# Altium footprint library SparkFun-Boards.PCBLIB: 59 footprints (part 3 of 4)
Each footprint in its own frame and in the unit in brackets; x right, y up, seen from the top. Pads: shape width x height; smd on the part's side, far side on the other; paste and mask are expansions set on the pad; w line width, h text height; cw(c..) or ccw(c..) is an arc to the next point about the centre after c.
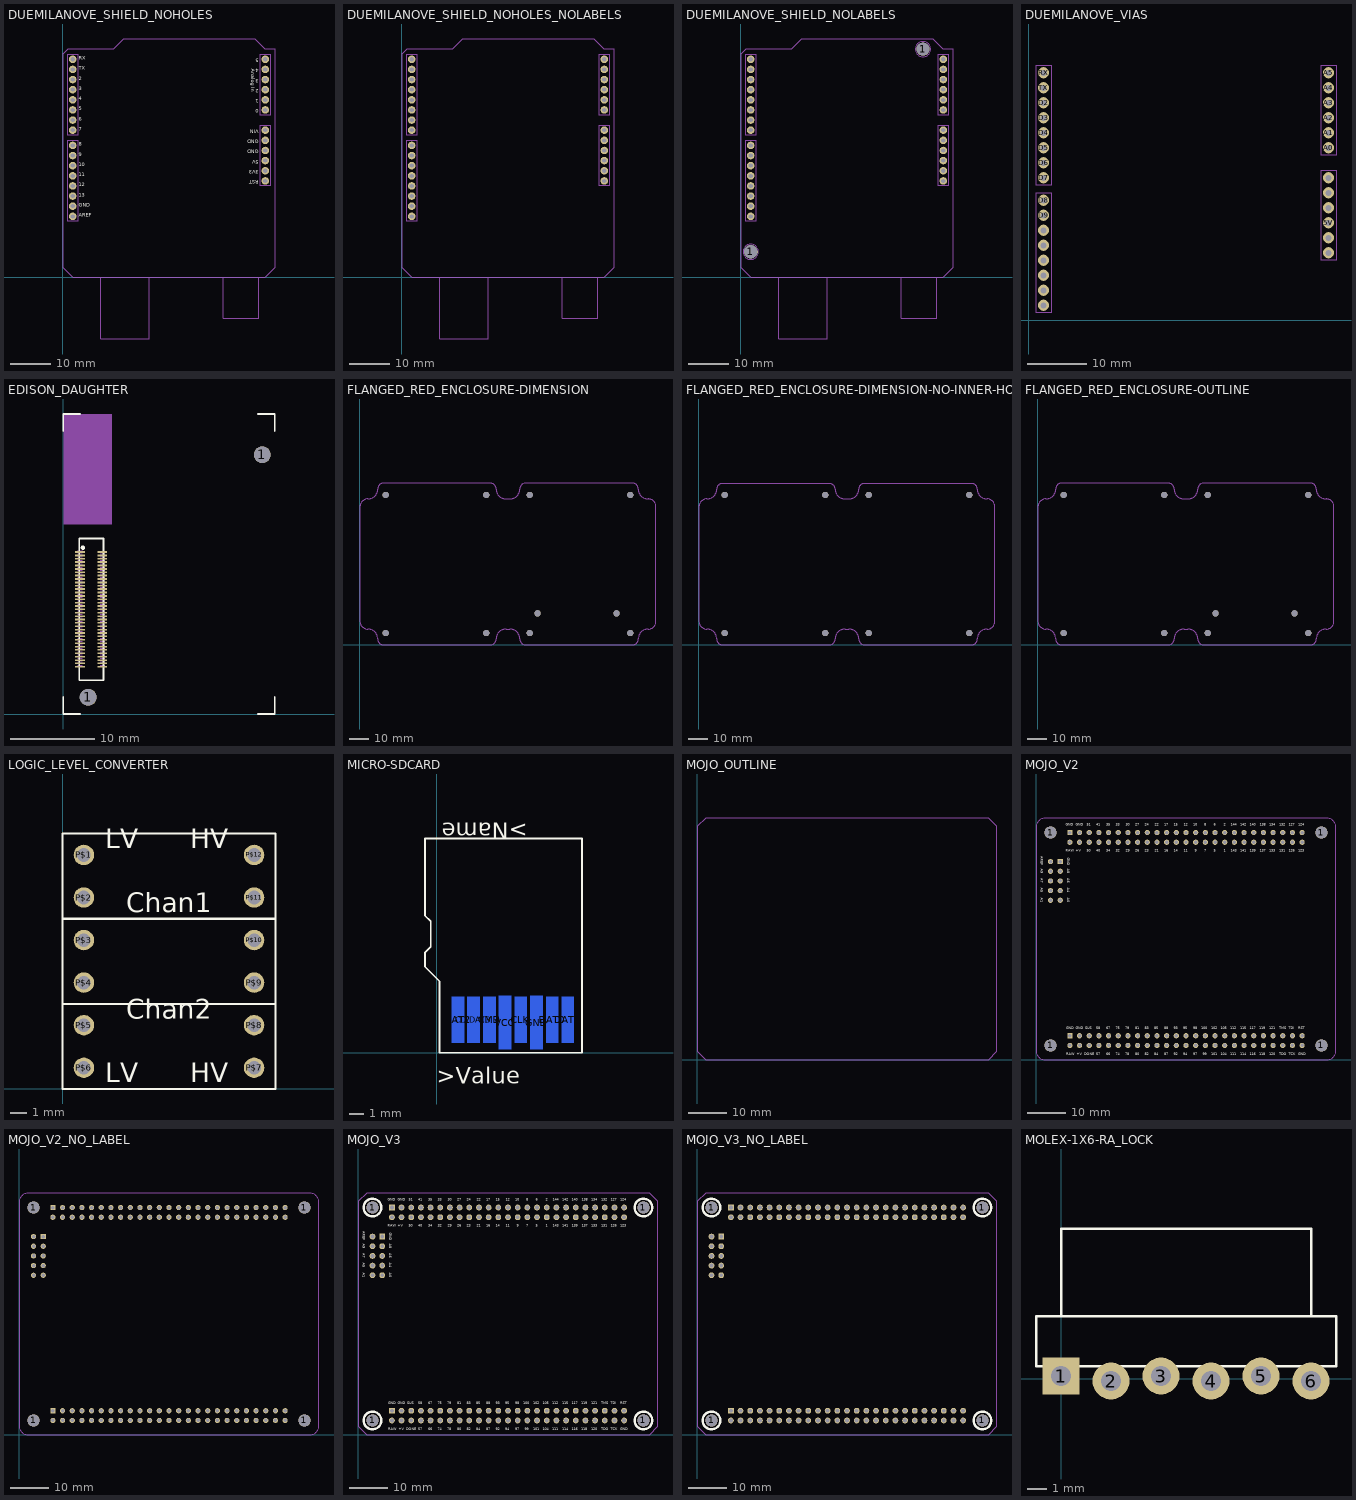
[diagram p2: the footprints below, top view; thin cyan lines are the x and y axes]

## DUEMILANOVE_SHIELD_NOHOLES [mil]
pads (28):
  round 74 hole 40: 3.3V(2000,1050) 5V(2000,1150) A0(2000,1650) A1(2000,1750) A2(2000,1850) A3(2000,1950) A4(2000,2050) A5(2000,2150) AREF(100,600) D2(100,1950) D3(100,1850) D4(100,1750) D5(100,1650) D6(100,1550) D7(100,1450) D8(100,1300) D9(100,1200) D10(100,1100) D11(100,1000) D12(100,900) D13(100,800) GND@0(2000,1250) GND@1(2000,1350) GND@2(100,700) RES(2000,950) RX(100,2150) TX(100,2050) VIN(2000,1450)
Top Overlay:
  text "GND" at 1935,1370 h62
  text "5V" at 1935,1170 h62
  text "RST" at 1935,970 h62
  text "VIN" at 1936,1470 h62
  text "3V3" at 1935,1070 h62
  text "0" at 1936,1670 h62
  text "1" at 1936,1770 h62
  text "2" at 1936,1870 h62
  text "3" at 1936,1970 h62
  text "4" at 1936,2070 h62
  text "5" at 1936,2170 h62
  text "Analog In" at 1846,2055 h62
  text "GND" at 160,680 h62
  text "13" at 160,780 h62
  text "12" at 160,880 h62
  text "11" at 160,980 h62
  text "AREF" at 160,580 h62
  text "10" at 160,1080 h62
  text "9" at 160,1180 h62
  text "8" at 160,1280 h62
  text "7" at 160,1430 h62
  text "6" at 160,1530 h62
  text "5" at 160,1630 h62
  text "4" at 160,1730 h62
  text "3" at 160,1830 h62
  text "2" at 160,1930 h62
  text "TX" at 160,2030 h62
  text "RX" at 160,2130 h62
  text "GND" at 1935,1270 h62
Mechanical 16:
  lines w5: 50,550 150,550 150,1350 50,1350 50,550 ; 50,1400 150,1400 150,2200 50,2200 50,1400 ; 1950,900 2050,900 2050,1500 1950,1500 1950,900 ; 1950,1600 2050,1600 2050,2200 1950,2200 1950,1600
  lines w10: 1583,-3.94 1583,-405.51 1938,-405.51 1938,-3.94 ; 375,0 100,0 0,100 0,2200 50,2250 500,2250 600,2350 1900,2350 2000,2250 2100,2250 2100,100 2000,0 855,0 ; 375,0 855,0 ; 375,0 375,-610.24 855,-610.24 855,0

## DUEMILANOVE_SHIELD_NOHOLES_NOLABELS [mil]
pads (28):
  round 74 hole 40: 3.3V(2000,1050) 5V(2000,1150) A0(2000,1650) A1(2000,1750) A2(2000,1850) A3(2000,1950) A4(2000,2050) A5(2000,2150) AREF(100,600) D2(100,1950) D3(100,1850) D4(100,1750) D5(100,1650) D6(100,1550) D7(100,1450) D8(100,1300) D9(100,1200) D10(100,1100) D11(100,1000) D12(100,900) D13(100,800) GND@0(2000,1250) GND@1(2000,1350) GND@2(100,700) RES(2000,950) RX(100,2150) TX(100,2050) VIN(2000,1450)
Mechanical 16:
  lines w5: 50,550 150,550 150,1350 50,1350 50,550 ; 50,1400 150,1400 150,2200 50,2200 50,1400 ; 1950,900 2050,900 2050,1500 1950,1500 1950,900 ; 1950,1600 2050,1600 2050,2200 1950,2200 1950,1600
  lines w10: 1583,-3.94 1583,-405.51 1938,-405.51 1938,-3.94 ; 375,0 100,0 0,100 0,2200 50,2250 500,2250 600,2350 1900,2350 2000,2250 2100,2250 2100,100 2000,0 855,0 ; 375,0 855,0 ; 375,0 375,-610.24 855,-610.24 855,0
  text "GND" at 1935,1370 h62
  text "5V" at 1935,1170 h62
  text "RST" at 1935,970 h62
  text "VIN" at 1936,1470 h62
  text "3V3" at 1935,1070 h62
  text "0" at 1936,1670 h62
  text "1" at 1936,1770 h62
  text "2" at 1936,1870 h62
  text "3" at 1936,1970 h62
  text "4" at 1936,2070 h62
  text "5" at 1936,2170 h62
  text "Analog In" at 1846,2055 h62
  text "GND" at 160,680 h62
  text "13" at 160,780 h62
  text "12" at 160,880 h62
  text "11" at 160,980 h62
  text "AREF" at 160,580 h62
  text "10" at 160,1080 h62
  text "9" at 160,1180 h62
  text "8" at 160,1280 h62
  text "7" at 160,1430 h62
  text "6" at 160,1530 h62
  text "5" at 160,1630 h62
  text "4" at 160,1730 h62
  text "3" at 160,1830 h62
  text "2" at 160,1930 h62
  text "TX" at 160,2030 h62
  text "RX" at 160,2130 h62
  text "GND" at 1935,1270 h62

## DUEMILANOVE_SHIELD_NOLABELS [mil]
pads (30):
  round 130 hole 130: 1(100,250) 1(1800,2250)
  round 74 hole 40: 3.3V(2000,1050) 5V(2000,1150) A0(2000,1650) A1(2000,1750) A2(2000,1850) A3(2000,1950) A4(2000,2050) A5(2000,2150) AREF(100,600) D2(100,1950) D3(100,1850) D4(100,1750) D5(100,1650) D6(100,1550) D7(100,1450) D8(100,1300) D9(100,1200) D10(100,1100) D11(100,1000) D12(100,900) D13(100,800) GND@0(2000,1250) GND@1(2000,1350) GND@2(100,700) RES(2000,950) RX(100,2150) TX(100,2050) VIN(2000,1450)
Mechanical 8:
  circle w5: c100,250 r75
  circle w5: c1800,2250 r75
Mechanical 9:
  circle w5: c100,250 r75
  circle w5: c1800,2250 r75
Mechanical 16:
  lines w5: 50,550 150,550 150,1350 50,1350 50,550 ; 50,1400 150,1400 150,2200 50,2200 50,1400 ; 1950,900 2050,900 2050,1500 1950,1500 1950,900 ; 1950,1600 2050,1600 2050,2200 1950,2200 1950,1600
  lines w10: 1583,-3.94 1583,-405.51 1938,-405.51 1938,-3.94 ; 375,0 100,0 0,100 0,2200 50,2250 500,2250 600,2350 1900,2350 2000,2250 2100,2250 2100,100 2000,0 855,0 ; 375,0 855,0 ; 375,0 375,-610.24 855,-610.24 855,0
  text "GND" at 1941,1270 h62
  text "GND" at 1941,1370 h62
  text "5V" at 1941,1170 h62
  text "RST" at 1941,970 h62
  text "VIN" at 1941,1470 h62
  text "3.3V" at 1941,1070 h62
  text "0" at 1941,1670 h62
  text "1" at 1941,1770 h62
  text "2" at 1941,1870 h62
  text "3" at 1941,1970 h62
  text "4" at 1941,2070 h62
  text "5" at 1941,2170 h62
  text "Analog In" at 1841,2055 h62
  text "GND" at 155,680 h62
  text "13" at 155,780 h62
  text "12" at 155,880 h62
  text "11" at 155,980 h62
  text "AREF" at 155,580 h62
  text "10" at 155,1080 h62
  text "9" at 155,1180 h62
  text "8" at 155,1280 h62
  text "7" at 155,1430 h62
  text "6" at 155,1530 h62
  text "5" at 155,1630 h62
  text "4" at 155,1730 h62
  text "3" at 155,1830 h62
  text "2" at 155,1930 h62
  text "TX" at 155,2030 h62
  text "RX" at 155,2130 h62

## DUEMILANOVE_VIAS [mil]
pads (28):
  round 74 hole 40: 3.3V(2000,550) 5V(2000,650) A0(2000,1150) A1(2000,1250) A2(2000,1350) A3(2000,1450) A4(2000,1550) A5(2000,1650) AREF(100,100) D2(100,1450) D3(100,1350) D4(100,1250) D5(100,1150) D6(100,1050) D7(100,950) D8(100,800) D9(100,700) D10(100,600) D11(100,500) D12(100,400) D13(100,300) GND@0(2000,750) GND@1(2000,850) GND@2(100,200) RES(2000,450) RX(100,1650) TX(100,1550) VIN(2000,950)
Mechanical 16:
  lines w5: 50,50 150,50 150,850 50,850 50,50 ; 50,900 150,900 150,1700 50,1700 50,900 ; 1950,400 2050,400 2050,1000 1950,1000 1950,400 ; 1950,1100 2050,1100 2050,1700 1950,1700 1950,1100
  text "GND" at 1958,770 h62
  text "GND" at 1958,870 h62
  text "+5V" at 1958,670 h62
  text "Reset" at 1958,470 h62
  text "Vin" at 1958,970 h62
  text "+3.3V" at 1958,570 h62
  text "0" at 1958,1170 h62
  text "1" at 1958,1270 h62
  text "2" at 1958,1370 h62
  text "3" at 1958,1470 h62
  text "4" at 1958,1570 h62
  text "5" at 1958,1670 h62
  text "Analog In" at 1858,1555 h62
  text "GND" at 150,180 h62
  text "13" at 150,280 h62
  text "12" at 150,380 h62
  text "11" at 150,480 h62
  text "Aref" at 150,80 h62
  text "10" at 150,580 h62
  text "9" at 150,680 h62
  text "8" at 150,780 h62
  text "7" at 150,930 h62
  text "6" at 150,1030 h62
  text "5" at 150,1130 h62
  text "4" at 150,1230 h62
  text "3" at 150,1330 h62
  text "2" at 150,1430 h62
  text "TX" at 150,1530 h62
  text "RX" at 150,1630 h62
  text "PWM" at 269,480 h62
  text "PWM" at 269,580 h62
  text "PWM" at 269,680 h62
  text "PWM" at 269,1030 h62
  text "PWM" at 269,1130 h62
  text "PWM" at 269,1330 h62

## EDISON_DAUGHTER [mil]
pads (72):
  rect 45x8 smd: 1(78,755) 2(182,755) 3(78,739) 4(182,739) 5(78,724) 6(182,724) 7(78,708) 8(182,708) 9(78,692) 10(182,692) 11(78,676) 12(182,676) 13(78,661) 14(182,661) 15(78,645) 16(182,645) 17(78,629) 18(182,629) 19(78,613) 20(182,613) 21(78,598) 22(182,598) 23(78,582) 24(182,582) 25(78,566) 26(182,566) 27(78,550) 28(182,550) 29(78,535) 30(182,535) 31(78,519) 32(182,519) 33(78,503) 34(182,503) 35(78,488) 36(182,488) 37(78,472) 38(182,472) 39(78,456) 40(182,456) 41(78,440) 42(182,440) 43(78,425) 44(182,425) 45(78,409) 46(182,409) 47(78,393) 48(182,393) 49(78,377) 50(182,377) 51(78,362) 52(182,362) 53(78,346) 54(182,346) 55(78,330) 56(182,330) 57(78,314) 58(182,314) 59(78,299) 60(182,299) 61(78,283) 62(182,283) 63(78,267) 64(182,267) 65(78,251) 66(182,251) 67(78,236) 68(182,236) 69(78,220) 70(182,220)
  round 79 hole 79: 1(116,78) 1(927,1208)
Top Overlay:
  circle w12: c91,775 r4
  lines w8: 0,79 0,0 79,0 ; 0,1319 0,1398 79,1398 ; 906,0 985,0 985,79 ; 906,1398 985,1398 985,1319 ; 74,157 74,818 187,818 187,157 74,157
Mechanical 2:
  text ">NAME" at 25,1378 h27.2
Mechanical 8:
  lines w1: 66,761 91,761
  lines w2: 68,228 89,228 ; 68,243 89,243 ; 68,259 89,259 ; 68,275 89,275 ; 68,291 89,291 ; 68,306 89,306 ; 68,322 89,322 ; 68,338 89,338 ; 68,354 89,354 ; 68,369 89,369 ; 68,385 89,385 ; 68,401 89,401 ; 68,417 89,417 ; 68,432 89,432 ; 68,448 89,448 ; 68,464 89,464 ; 68,480 89,480 ; 68,495 89,495 ; 68,511 89,511 ; 68,527 89,527 ; 68,543 89,543 ; 68,558 89,558 ; 68,574 89,574 ; 68,590 89,590 ; 68,606 89,606 ; 68,621 89,621 ; 68,637 89,637 ; 68,653 89,653 ; 68,669 89,669 ; 68,684 89,684 ; 68,700 89,700 ; 68,716 89,716 ; 68,732 89,732 ; 68,747 89,747 ; 173,228 193,228 ; 173,243 193,243 ; 173,259 193,259 ; 173,275 193,275 ; 173,291 193,291 ; 173,306 193,306 ; 173,322 193,322 ; 173,338 193,338 ; 173,354 193,354 ; 173,369 193,369 ; 173,385 193,385 ; 173,401 193,401 ; 173,417 193,417 ; 173,432 193,432 ; 173,448 193,448 ; 173,464 193,464 ; 173,480 193,480 ; 173,495 193,495 ; 173,511 193,511 ; 173,527 193,527 ; 173,543 193,543 ; 173,558 193,558 ; 173,574 193,574 ; 173,590 193,590 ; 173,606 193,606 ; 173,621 193,621 ; 173,637 193,637 ; 173,653 193,653 ; 173,669 193,669 ; 173,684 193,684 ; 173,700 193,700 ; 173,716 193,716 ; 173,732 193,732 ; 173,747 193,747
Mechanical 27:
  region: 228,1398 0,1398 0,882 228,882
Mechanical 28:
  region: 228,1398 0,1398 0,882 228,882

## FLANGED_RED_ENCLOSURE-DIMENSION [mil]
pads (10):
  round 125 hole 125: 1(512,237) 1(512,2993) 1(2520,237) 1(2520,2993) 1(3386,237) 1(3386,2993) 1(3544,630) 1(5119,630) 1(5394,237) 1(5394,2993)
Mechanical 1:
  lines w8: 0,473 0,2756 cw(c158,2756) 158,2914 ccw(c158,3111) 355,3111 cw(c473,3111) 473,3229 2599,3229 cw(c2599,3111) 2717,3111 ccw(c2914,3111) 2914,2914 2993,2914 ccw(c2992.5,3110.5) 3189,3111 cw(c3307.5,3110.5) 3308,3229 5434,3229 cw(c5434,3111) 5552,3111 ccw(c5749,3111) 5749,2914 cw(c5748.5,2756.5) 5906,2756 5906,473 cw(c5748.5,472.5) 5749,315 ccw(c5748.5,118.5) 5552,119 cw(c5433.5,118.5) 5434,0 3308,0 cw(c3308,119) 3189,119 ccw(c2993,119) 2993,315 2914,315 ccw(c2913.5,118.5) 2717,119 cw(c2598.5,118.5) 2599,0 473,0 cw(c473.5,118.5) 355,119 ccw(c158.5,118.5) 158,315 cw(c158,473) 0,473

## FLANGED_RED_ENCLOSURE-DIMENSION-NO-INNER-HOLES [mil]
pads (8):
  round 125 hole 125: 1(512,237) 1(512,2993) 1(2520,237) 1(2520,2993) 1(3386,237) 1(3386,2993) 1(5394,237) 1(5394,2993)
Mechanical 1:
  lines w8: 0,473 0,2756 cw(c158,2756) 158,2914 ccw(c158,3111) 355,3111 cw(c467,3108) 470,3220 2600,3220 cw(c2604,3107) 2717,3111 ccw(c2914,3111) 2914,2914 2993,2914 ccw(c2992.5,3110.5) 3189,3111 cw(c3299,3110) 3300,3220 5440,3220 cw(c5441.5,3109.5) 5552,3111 ccw(c5749,3111) 5749,2914 cw(c5752.5,2766.5) 5900,2770 5900,460 cw(c5752,463) 5749,315 ccw(c5748.5,118.5) 5552,119 cw(c5433.5,118.5) 5434,0 3308,0 cw(c3308,119) 3189,119 ccw(c2993,119) 2993,315 2914,315 ccw(c2913.5,118.5) 2717,119 cw(c2598.5,118.5) 2599,0 473,0 cw(c473.5,118.5) 355,119 ccw(c158.5,118.5) 158,315 cw(c158,473) 0,473

## FLANGED_RED_ENCLOSURE-OUTLINE [mil]
pads (10):
  round 125 hole 125: 1(512,237) 1(512,2993) 1(2520,237) 1(2520,2993) 1(3386,237) 1(3386,2993) 1(3544,630) 1(5119,630) 1(5394,237) 1(5394,2993)
Mechanical 14:
  lines w8: 0,473 0,2756 cw(c158,2756) 158,2914 ccw(c158,3111) 355,3111 cw(c473,3111) 473,3229 2599,3229 cw(c2599,3111) 2717,3111 ccw(c2914,3111) 2914,2914 2993,2914 ccw(c2992.5,3110.5) 3189,3111 cw(c3307.5,3110.5) 3308,3229 5434,3229 cw(c5434,3111) 5552,3111 ccw(c5749,3111) 5749,2914 cw(c5748.5,2756.5) 5906,2756 5906,473 cw(c5748.5,472.5) 5749,315 ccw(c5748.5,118.5) 5552,119 cw(c5433.5,118.5) 5434,0 3308,0 cw(c3308,119) 3189,119 ccw(c2993,119) 2993,315 2914,315 ccw(c2913.5,118.5) 2717,119 cw(c2598.5,118.5) 2599,0 473,0 cw(c473.5,118.5) 355,119 ccw(c158.5,118.5) 158,315 cw(c158,473) 0,473

## LOGIC_LEVEL_CONVERTER [mil]
pads (12):
  round 48 hole 32: P$1(50,550) P$2(50,450) P$3(50,350) P$4(50,250) P$5(50,150) P$6(50,50) P$7(450,50) P$8(450,150) P$9(450,250) P$10(450,350) P$11(450,450) P$12(450,550)
Top Overlay:
  lines w5: 0,200 0,0 500,0 500,200 ; 0,200 0,400 ; 0,200 500,200 ; 0,400 0,600 500,600 500,400 ; 0,400 500,400 ; 500,200 500,400
  text "Chan1" at 150,400 h77.5
  text "Chan2" at 150,150 h77.5
  text "LV" at 100,550 h77.5
  text "LV" at 100,0 h77.5
  text "HV" at 300,550 h77.5
  text "HV" at 300,0 h77.5

## MICRO-SDCARD [mil]
pads (8):
  rect 34x128 smd far side: CD/DAT3(101,91) CLK(231,91) CMD(145,91) DAT0(318,91) DAT1(361,91) DAT2(58,91)
  rect 34x148 smd far side: GND(275,83) VCC(188,83)
Top Overlay:
  lines w5: -33.07,237 -33.07,276 -17.32,292 -17.32,363 -33.07,378 -33.07,591 400,591 400,0 7,0 7,197 -33.07,237
  text ">Name" at 250,650 h77.5
  text ">Value" at 0,-100 h77.5

## MOJO_OUTLINE [mil]
Mechanical 1:
  lines w8: 0,88 0,2413 88,2500 3013,2500 3100,2413 3100,88 3013,0 88,0 0,88

## MOJO_V2 [mil]
pads (114):
  round 126 hole 126: 1(150,150) 1(150,2350) 1(2950,150) 1(2950,2350)
  round 54 hole 36: 1(1950,2250) 2(1950,2350) 5(1850,2250) 6(1850,2350) 7(1750,2250) 8(1750,2350) 9(1650,2250) 10(1650,2350) 11(1550,2250) 12(1550,2350) 14(1450,2250) 15(1450,2350) 16(1350,2250) 17(1350,2350) 21(1250,2250) 22(1250,2350) 23(1150,2250) 24(1150,2350) 26(1050,2250) 27(1050,2350) 29(950,2250) 30(950,2350) 32(850,2250) 33(850,2350) 34(750,2250) 35(750,2350) 40(650,2250) 41(650,2350) 50(550,2250) 51(550,2350) 57(650,150) 58(650,250) 66(750,150) 67(750,250) 74(850,150) 75(850,250) 78(950,150) 79(950,250) 80(1050,150) 81(1050,250) 82(1150,150) 83(1150,250) 84(1250,150) 85(1250,250) 87(1350,150) 88(1350,250) 92(1450,150) 93(1450,250) 94(1550,150) 95(1550,250) 97(1650,150) 98(1650,250) 99(1750,150) 100(1750,250) 101(1850,150) 102(1850,250) 104(1950,150) 105(1950,250) 111(2050,150) 112(2050,250) 114(2150,150) 115(2150,250) 116(2250,150) 117(2250,250) 118(2350,150) 119(2350,250) 120(2450,150) 121(2450,250) 123(2750,2250) 124(2750,2350) 126(2650,2250) 127(2650,2350) 131(2550,2250) 132(2550,2350) 133(2450,2250) 134(2450,2350) 137(2350,2250) 138(2350,2350) 139(2250,2250) 140(2250,2350) 141(2150,2250) 142(2150,2350) 143(2050,2250) 144(2050,2350) A0(250,1650) A1(150,1650) A4(250,1750) A5(150,1750) A6(250,1850) A7(150,1850) A8(250,1950) A9(150,1950) AREF(150,2050) DONE(550,150) GND@2(450,2350) GND@4(450,250) GND@6(2750,150) RAW@1(350,2250) RAW@2(350,150) RST(2750,250) SUS(550,250) TCK(2650,150) TDI(2650,250) TDO(2550,150) TMS(2550,250) V@1(450,2250) V@2(450,150)
  rect 54x54 hole 36: GND@1(350,2350) GND@3(350,250) GND@5(250,2050)
Top Overlay:
  text "+V" at 413,2150 h27.2
  text "GND" at 410,2418 h27.2
  text "51" at 525,2418 h27.2
  text "50" at 525,2150 h27.2
  text "41" at 625,2418 h27.2
  text "40" at 625,2150 h27.2
  text "35" at 725,2418 h27.2
  text "34" at 725,2150 h27.2
  text "33" at 825,2418 h27.2
  text "32" at 825,2150 h27.2
  text "30" at 925,2418 h27.2
  text "29" at 925,2150 h27.2
  text "27" at 1025,2418 h27.2
  text "26" at 1025,2150 h27.2
  text "24" at 1125,2418 h27.2
  text "23" at 1125,2150 h27.2
  text "22" at 1225,2418 h27.2
  text "21" at 1225,2150 h27.2
  text "17" at 1325,2418 h27.2
  text "16" at 1325,2150 h27.2
  text "15" at 1425,2418 h27.2
  text "14" at 1425,2150 h27.2
  text "12" at 1525,2418 h27.2
  text "11" at 1525,2150 h27.2
  text "10" at 1625,2418 h27.2
  text "9" at 1638,2150 h27.2
  text "8" at 1738,2418 h27.2
  text "7" at 1738,2150 h27.2
  text "6" at 1838,2418 h27.2
  text "5" at 1838,2150 h27.2
  text "2" at 1938,2418 h27.2
  text "1" at 1938,2150 h27.2
  text "144" at 2011,2418 h27.2
  text "143" at 2011,2150 h27.2
  text "142" at 2111,2418 h27.2
  text "141" at 2111,2150 h27.2
  text "140" at 2211,2418 h27.2
  text "139" at 2211,2150 h27.2
  text "138" at 2311,2418 h27.2
  text "137" at 2311,2150 h27.2
  text "GND" at 309,2418 h27.2
  text "RAW" at 309,2150 h27.2
  text "134" at 2412,2418 h27.2
  text "133" at 2412,2150 h27.2
  text "132" at 2512,2418 h27.2
  text "131" at 2512,2150 h27.2
  text "127" at 2612,2418 h27.2
  text "126" at 2612,2150 h27.2
  text "124" at 2712,2418 h27.2
  text "123" at 2712,2150 h27.2
  text "+V" at 423,50 h27.2
  text "GND" at 409,318 h27.2
  text "58" at 624,318 h27.2
  text "57" at 624,50 h27.2
  text "67" at 724,318 h27.2
  text "66" at 724,50 h27.2
  text "75" at 824,318 h27.2
  text "74" at 824,50 h27.2
  text "79" at 924,318 h27.2
  text "78" at 924,50 h27.2
  text "81" at 1024,318 h27.2
  text "80" at 1024,50 h27.2
  text "83" at 1124,318 h27.2
  text "82" at 1124,50 h27.2
  text "85" at 1224,318 h27.2
  text "84" at 1224,50 h27.2
  text "88" at 1324,318 h27.2
  text "87" at 1324,50 h27.2
  text "93" at 1424,318 h27.2
  text "92" at 1424,50 h27.2
  text "95" at 1524,318 h27.2
  text "94" at 1524,50 h27.2
  text "98" at 1624,318 h27.2
  text "97" at 1624,50 h27.2
  text "100" at 1709,318 h27.2
  text "99" at 1721,50 h27.2
  text "102" at 1809,318 h27.2
  text "101" at 1809,50 h27.2
  text "105" at 1909,318 h27.2
  text "104" at 1909,50 h27.2
  text "112" at 2009,318 h27.2
  text "111" at 2009,50 h27.2
  text "115" at 2109,318 h27.2
  text "114" at 2109,50 h27.2
  text "117" at 2209,318 h27.2
  text "116" at 2209,50 h27.2
  text "121" at 2409,318 h27.2
  text "120" at 2409,50 h27.2
  text "119" at 2309,318 h27.2
  text "118" at 2309,50 h27.2
  text "RAW" at 310,50 h27.2
  text "TMS" at 2512,318 h27.2
  text "TDO" at 2512,50 h27.2
  text "RST" at 2712,318 h27.2
  text "GND" at 2712,50 h27.2
  text "TDI" at 2612,318 h27.2
  text "TCK" at 2612,50 h27.2
  text "SUS" at 511,318 h27.2
  text "DONE" at 496,50 h27.2
  text "A0" at 322,1674 h27.2
  text "A9" at 48,1974 h27.2
  text "A1" at 48,1674 h27.2
  text "A4" at 322,1780 h27.2
  text "A5" at 48,1780 h27.2
  text "A6" at 322,1877 h27.2
  text "A7" at 48,1877 h27.2
  text "A8" at 322,1974 h27.2
  text "GND" at 322,2091 h27.2
  text "AREF" at 48,2105 h27.2
  text "GND" at 310,318 h27.2
Mechanical 16:
  lines w8: 0,100 0,2400 cw(c100,2400) 100,2500 3000,2500 cw(c3000,2400) 3100,2400 3100,100 cw(c3000,100) 3000,0 100,0 cw(c100,100) 0,100

## MOJO_V2_NO_LABEL [mil]
pads (114):
  round 126 hole 126: 1(150,150) 1(150,2350) 1(2950,150) 1(2950,2350)
  round 54 hole 36: 1(1950,2250) 2(1950,2350) 5(1850,2250) 6(1850,2350) 7(1750,2250) 8(1750,2350) 9(1650,2250) 10(1650,2350) 11(1550,2250) 12(1550,2350) 14(1450,2250) 15(1450,2350) 16(1350,2250) 17(1350,2350) 21(1250,2250) 22(1250,2350) 23(1150,2250) 24(1150,2350) 26(1050,2250) 27(1050,2350) 29(950,2250) 30(950,2350) 32(850,2250) 33(850,2350) 34(750,2250) 35(750,2350) 40(650,2250) 41(650,2350) 50(550,2250) 51(550,2350) 57(650,150) 58(650,250) 66(750,150) 67(750,250) 74(850,150) 75(850,250) 78(950,150) 79(950,250) 80(1050,150) 81(1050,250) 82(1150,150) 83(1150,250) 84(1250,150) 85(1250,250) 87(1350,150) 88(1350,250) 92(1450,150) 93(1450,250) 94(1550,150) 95(1550,250) 97(1650,150) 98(1650,250) 99(1750,150) 100(1750,250) 101(1850,150) 102(1850,250) 104(1950,150) 105(1950,250) 111(2050,150) 112(2050,250) 114(2150,150) 115(2150,250) 116(2250,150) 117(2250,250) 118(2350,150) 119(2350,250) 120(2450,150) 121(2450,250) 123(2750,2250) 124(2750,2350) 126(2650,2250) 127(2650,2350) 131(2550,2250) 132(2550,2350) 133(2450,2250) 134(2450,2350) 137(2350,2250) 138(2350,2350) 139(2250,2250) 140(2250,2350) 141(2150,2250) 142(2150,2350) 143(2050,2250) 144(2050,2350) A0(250,1650) A1(150,1650) A4(250,1750) A5(150,1750) A6(250,1850) A7(150,1850) A8(250,1950) A9(150,1950) AREF(150,2050) DONE(550,150) GND@2(450,2350) GND@4(450,250) GND@6(2750,150) RAW@1(350,2250) RAW@2(350,150) RST(2750,250) SUS(550,250) TCK(2650,150) TDI(2650,250) TDO(2550,150) TMS(2550,250) V@1(450,2250) V@2(450,150)
  rect 54x54 hole 36: GND@1(350,2350) GND@3(350,250) GND@5(250,2050)
Mechanical 16:
  lines w8: 0,100 0,2400 cw(c100,2400) 100,2500 3000,2500 cw(c3000,2400) 3100,2400 3100,100 cw(c3000,100) 3000,0 100,0 cw(c100,100) 0,100
  text "+V" at 413,2150 h27.2
  text "GND" at 410,2418 h27.2
  text "51" at 525,2418 h27.2
  text "50" at 525,2150 h27.2
  text "41" at 625,2418 h27.2
  text "40" at 625,2150 h27.2
  text "35" at 725,2418 h27.2
  text "34" at 725,2150 h27.2
  text "33" at 825,2418 h27.2
  text "32" at 825,2150 h27.2
  text "30" at 925,2418 h27.2
  text "29" at 925,2150 h27.2
  text "27" at 1025,2418 h27.2
  text "26" at 1025,2150 h27.2
  text "24" at 1125,2418 h27.2
  text "23" at 1125,2150 h27.2
  text "22" at 1225,2418 h27.2
  text "21" at 1225,2150 h27.2
  text "17" at 1325,2418 h27.2
  text "16" at 1325,2150 h27.2
  text "15" at 1425,2418 h27.2
  text "14" at 1425,2150 h27.2
  text "12" at 1525,2418 h27.2
  text "11" at 1525,2150 h27.2
  text "10" at 1625,2418 h27.2
  text "9" at 1638,2150 h27.2
  text "8" at 1738,2418 h27.2
  text "7" at 1738,2150 h27.2
  text "6" at 1838,2418 h27.2
  text "5" at 1838,2150 h27.2
  text "2" at 1938,2418 h27.2
  text "1" at 1938,2150 h27.2
  text "144" at 2011,2418 h27.2
  text "143" at 2011,2150 h27.2
  text "142" at 2111,2418 h27.2
  text "141" at 2111,2150 h27.2
  text "140" at 2211,2418 h27.2
  text "139" at 2211,2150 h27.2
  text "138" at 2311,2418 h27.2
  text "137" at 2311,2150 h27.2
  text "GND" at 309,2418 h27.2
  text "RAW" at 309,2150 h27.2
  text "134" at 2412,2418 h27.2
  text "133" at 2412,2150 h27.2
  text "132" at 2512,2418 h27.2
  text "131" at 2512,2150 h27.2
  text "127" at 2612,2418 h27.2
  text "126" at 2612,2150 h27.2
  text "124" at 2712,2418 h27.2
  text "123" at 2712,2150 h27.2
  text "+V" at 423,50 h27.2
  text "GND" at 409,318 h27.2
  text "58" at 624,318 h27.2
  text "57" at 624,50 h27.2
  text "67" at 724,318 h27.2
  text "66" at 724,50 h27.2
  text "75" at 824,318 h27.2
  text "74" at 824,50 h27.2
  text "79" at 924,318 h27.2
  text "78" at 924,50 h27.2
  text "81" at 1024,318 h27.2
  text "80" at 1024,50 h27.2
  text "83" at 1124,318 h27.2
  text "82" at 1124,50 h27.2
  text "85" at 1224,318 h27.2
  text "84" at 1224,50 h27.2
  text "88" at 1324,318 h27.2
  text "87" at 1324,50 h27.2
  text "93" at 1424,318 h27.2
  text "92" at 1424,50 h27.2
  text "95" at 1524,318 h27.2
  text "94" at 1524,50 h27.2
  text "98" at 1624,318 h27.2
  text "97" at 1624,50 h27.2
  text "100" at 1709,318 h27.2
  text "99" at 1721,50 h27.2
  text "102" at 1809,318 h27.2
  text "101" at 1809,50 h27.2
  text "105" at 1909,318 h27.2
  text "104" at 1909,50 h27.2
  text "112" at 2009,318 h27.2
  text "111" at 2009,50 h27.2
  text "115" at 2109,318 h27.2
  text "114" at 2109,50 h27.2
  text "117" at 2209,318 h27.2
  text "116" at 2209,50 h27.2
  text "121" at 2409,318 h27.2
  text "120" at 2409,50 h27.2
  text "119" at 2309,318 h27.2
  text "118" at 2309,50 h27.2
  text "RAW" at 310,50 h27.2
  text "TMS" at 2512,318 h27.2
  text "TDO" at 2512,50 h27.2
  text "RST" at 2712,318 h27.2
  text "GND" at 2712,50 h27.2
  text "TDI" at 2612,318 h27.2
  text "TCK" at 2612,50 h27.2
  text "SUS" at 511,318 h27.2
  text "DONE" at 496,50 h27.2
  text "A0" at 322,1674 h27.2
  text "A9" at 48,1974 h27.2
  text "A1" at 48,1674 h27.2
  text "A4" at 322,1780 h27.2
  text "A5" at 48,1780 h27.2
  text "A6" at 322,1877 h27.2
  text "A7" at 48,1877 h27.2
  text "A8" at 322,1974 h27.2
  text "GND" at 322,2091 h27.2
  text "AREF" at 48,2105 h27.2
  text "GND" at 310,318 h27.2

## MOJO_V3 [mil]
pads (114):
  round 126 hole 126: 1(150,150) 1(150,2350) 1(2950,150) 1(2950,2350)
  round 60 hole 40: 1(1950,2250) 2(1950,2350) 5(1850,2250) 6(1850,2350) 7(1750,2250) 8(1750,2350) 9(1650,2250) 10(1650,2350) 11(1550,2250) 12(1550,2350) 14(1450,2250) 15(1450,2350) 16(1350,2250) 17(1350,2350) 21(1250,2250) 22(1250,2350) 23(1150,2250) 24(1150,2350) 26(1050,2250) 27(1050,2350) 29(950,2250) 30(950,2350) 32(850,2250) 33(850,2350) 34(750,2250) 35(750,2350) 40(650,2250) 41(650,2350) 50(550,2250) 51(550,2350) 57(650,150) 58(650,250) 66(750,150) 67(750,250) 74(850,150) 75(850,250) 78(950,150) 79(950,250) 80(1050,150) 81(1050,250) 82(1150,150) 83(1150,250) 84(1250,150) 85(1250,250) 87(1350,150) 88(1350,250) 92(1450,150) 93(1450,250) 94(1550,150) 95(1550,250) 97(1650,150) 98(1650,250) 99(1750,150) 100(1750,250) 101(1850,150) 102(1850,250) 104(1950,150) 105(1950,250) 111(2050,150) 112(2050,250) 114(2150,150) 115(2150,250) 116(2250,150) 117(2250,250) 118(2350,150) 119(2350,250) 120(2450,150) 121(2450,250) 123(2750,2250) 124(2750,2350) 126(2650,2250) 127(2650,2350) 131(2550,2250) 132(2550,2350) 133(2450,2250) 134(2450,2350) 137(2350,2250) 138(2350,2350) 139(2250,2250) 140(2250,2350) 141(2150,2250) 142(2150,2350) 143(2050,2250) 144(2050,2350) A0(250,1650) A1(150,1650) A4(250,1750) A5(150,1750) A6(250,1850) A7(150,1850) A8(250,1950) A9(150,1950) AREF(150,2050) DONE(550,150) GND@2(450,2350) GND@4(450,250) GND@6(2750,150) RAW@1(350,2250) RAW@2(350,150) RST(2750,250) SUS(550,250) TCK(2650,150) TDI(2650,250) TDO(2550,150) TMS(2550,250) V@1(450,2250) V@2(450,150)
  rect 60x60 hole 40: GND@1(350,2350) GND@3(350,250) GND@5(250,2050)
Top Overlay:
  circle w24: c150,2350 r91
  circle w24: c150,150 r91
  circle w24: c2950,2350 r91
  circle w24: c2950,150 r91
  text "+V" at 413,2150 h27.2
  text "GND" at 410,2418 h27.2
  text "51" at 525,2418 h27.2
  text "50" at 525,2150 h27.2
  text "41" at 625,2418 h27.2
  text "40" at 625,2150 h27.2
  text "35" at 725,2418 h27.2
  text "34" at 725,2150 h27.2
  text "33" at 825,2418 h27.2
  text "32" at 825,2150 h27.2
  text "30" at 925,2418 h27.2
  text "29" at 925,2150 h27.2
  text "27" at 1025,2418 h27.2
  text "26" at 1025,2150 h27.2
  text "24" at 1125,2418 h27.2
  text "23" at 1125,2150 h27.2
  text "22" at 1225,2418 h27.2
  text "21" at 1225,2150 h27.2
  text "17" at 1325,2418 h27.2
  text "16" at 1325,2150 h27.2
  text "15" at 1425,2418 h27.2
  text "14" at 1425,2150 h27.2
  text "12" at 1525,2418 h27.2
  text "11" at 1525,2150 h27.2
  text "10" at 1625,2418 h27.2
  text "9" at 1638,2150 h27.2
  text "8" at 1738,2418 h27.2
  text "7" at 1738,2150 h27.2
  text "6" at 1838,2418 h27.2
  text "5" at 1838,2150 h27.2
  text "2" at 1938,2418 h27.2
  text "1" at 1938,2150 h27.2
  text "144" at 2011,2418 h27.2
  text "143" at 2011,2150 h27.2
  text "142" at 2111,2418 h27.2
  text "141" at 2111,2150 h27.2
  text "140" at 2211,2418 h27.2
  text "139" at 2211,2150 h27.2
  text "138" at 2311,2418 h27.2
  text "137" at 2311,2150 h27.2
  text "GND" at 309,2418 h27.2
  text "RAW" at 309,2150 h27.2
  text "134" at 2412,2418 h27.2
  text "133" at 2412,2150 h27.2
  text "132" at 2512,2418 h27.2
  text "131" at 2512,2150 h27.2
  text "127" at 2612,2418 h27.2
  text "126" at 2612,2150 h27.2
  text "124" at 2712,2418 h27.2
  text "123" at 2712,2150 h27.2
  text "+V" at 423,50 h27.2
  text "GND" at 409,318 h27.2
  text "58" at 624,318 h27.2
  text "57" at 624,50 h27.2
  text "67" at 724,318 h27.2
  text "66" at 724,50 h27.2
  text "75" at 824,318 h27.2
  text "74" at 824,50 h27.2
  text "79" at 924,318 h27.2
  text "78" at 924,50 h27.2
  text "81" at 1024,318 h27.2
  text "80" at 1024,50 h27.2
  text "83" at 1124,318 h27.2
  text "82" at 1124,50 h27.2
  text "85" at 1224,318 h27.2
  text "84" at 1224,50 h27.2
  text "88" at 1324,318 h27.2
  text "87" at 1324,50 h27.2
  text "93" at 1424,318 h27.2
  text "92" at 1424,50 h27.2
  text "95" at 1524,318 h27.2
  text "94" at 1524,50 h27.2
  text "98" at 1624,318 h27.2
  text "97" at 1624,50 h27.2
  text "100" at 1709,318 h27.2
  text "99" at 1721,50 h27.2
  text "102" at 1809,318 h27.2
  text "101" at 1809,50 h27.2
  text "105" at 1909,318 h27.2
  text "104" at 1909,50 h27.2
  text "112" at 2009,318 h27.2
  text "111" at 2009,50 h27.2
  text "115" at 2109,318 h27.2
  text "114" at 2109,50 h27.2
  text "117" at 2209,318 h27.2
  text "116" at 2209,50 h27.2
  text "121" at 2409,318 h27.2
  text "120" at 2409,50 h27.2
  text "119" at 2309,318 h27.2
  text "118" at 2309,50 h27.2
  text "RAW" at 310,50 h27.2
  text "TMS" at 2512,318 h27.2
  text "TDO" at 2512,50 h27.2
  text "RST" at 2712,318 h27.2
  text "GND" at 2712,50 h27.2
  text "TDI" at 2612,318 h27.2
  text "TCK" at 2612,50 h27.2
  text "SUS" at 511,318 h27.2
  text "DONE" at 496,50 h27.2
  text "A0" at 322,1674 h27.2
  text "A9" at 48,1974 h27.2
  text "A1" at 48,1674 h27.2
  text "A4" at 322,1780 h27.2
  text "A5" at 48,1780 h27.2
  text "A6" at 322,1877 h27.2
  text "A7" at 48,1877 h27.2
  text "A8" at 322,1974 h27.2
  text "GND" at 322,2091 h27.2
  text "AREF" at 48,2105 h27.2
  text "GND" at 310,318 h27.2
Bottom Overlay:
  circle w24: c150,2350 r91
  circle w24: c150,150 r91
  circle w24: c2950,2350 r91
  circle w24: c2950,150 r91
Mechanical 16:
  lines w8: 0,88 0,2413 88,2500 3013,2500 3100,2413 3100,88 3013,0 88,0 0,88

## MOJO_V3_NO_LABEL [mil]
pads (114):
  round 126 hole 126: 1(150,150) 1(150,2350) 1(2950,150) 1(2950,2350)
  round 60 hole 40: 1(1950,2250) 2(1950,2350) 5(1850,2250) 6(1850,2350) 7(1750,2250) 8(1750,2350) 9(1650,2250) 10(1650,2350) 11(1550,2250) 12(1550,2350) 14(1450,2250) 15(1450,2350) 16(1350,2250) 17(1350,2350) 21(1250,2250) 22(1250,2350) 23(1150,2250) 24(1150,2350) 26(1050,2250) 27(1050,2350) 29(950,2250) 30(950,2350) 32(850,2250) 33(850,2350) 34(750,2250) 35(750,2350) 40(650,2250) 41(650,2350) 50(550,2250) 51(550,2350) 57(650,150) 58(650,250) 66(750,150) 67(750,250) 74(850,150) 75(850,250) 78(950,150) 79(950,250) 80(1050,150) 81(1050,250) 82(1150,150) 83(1150,250) 84(1250,150) 85(1250,250) 87(1350,150) 88(1350,250) 92(1450,150) 93(1450,250) 94(1550,150) 95(1550,250) 97(1650,150) 98(1650,250) 99(1750,150) 100(1750,250) 101(1850,150) 102(1850,250) 104(1950,150) 105(1950,250) 111(2050,150) 112(2050,250) 114(2150,150) 115(2150,250) 116(2250,150) 117(2250,250) 118(2350,150) 119(2350,250) 120(2450,150) 121(2450,250) 123(2750,2250) 124(2750,2350) 126(2650,2250) 127(2650,2350) 131(2550,2250) 132(2550,2350) 133(2450,2250) 134(2450,2350) 137(2350,2250) 138(2350,2350) 139(2250,2250) 140(2250,2350) 141(2150,2250) 142(2150,2350) 143(2050,2250) 144(2050,2350) A0(250,1650) A1(150,1650) A4(250,1750) A5(150,1750) A6(250,1850) A7(150,1850) A8(250,1950) A9(150,1950) AREF(150,2050) DONE(550,150) GND@2(450,2350) GND@4(450,250) GND@6(2750,150) RAW@1(350,2250) RAW@2(350,150) RST(2750,250) SUS(550,250) TCK(2650,150) TDI(2650,250) TDO(2550,150) TMS(2550,250) V@1(450,2250) V@2(450,150)
  rect 60x60 hole 40: GND@1(350,2350) GND@3(350,250) GND@5(250,2050)
Top Overlay:
  circle w24: c150,2350 r91
  circle w24: c2950,2350 r91
  circle w24: c150,150 r91
  circle w24: c2950,150 r91
Bottom Overlay:
  circle w24: c150,2350 r91
  circle w24: c2950,2350 r91
  circle w24: c150,150 r91
  circle w24: c2950,150 r91
Mechanical 16:
  lines w8: 0,88 0,2413 88,2500 3013,2500 3100,2413 3100,88 3013,0 88,0 0,88
  text "+V" at 413,2150 h27.2
  text "GND" at 410,2418 h27.2
  text "51" at 525,2418 h27.2
  text "50" at 525,2150 h27.2
  text "41" at 625,2418 h27.2
  text "40" at 625,2150 h27.2
  text "35" at 725,2418 h27.2
  text "34" at 725,2150 h27.2
  text "33" at 825,2418 h27.2
  text "32" at 825,2150 h27.2
  text "30" at 925,2418 h27.2
  text "29" at 925,2150 h27.2
  text "27" at 1025,2418 h27.2
  text "26" at 1025,2150 h27.2
  text "24" at 1125,2418 h27.2
  text "23" at 1125,2150 h27.2
  text "22" at 1225,2418 h27.2
  text "21" at 1225,2150 h27.2
  text "17" at 1325,2418 h27.2
  text "16" at 1325,2150 h27.2
  text "15" at 1425,2418 h27.2
  text "14" at 1425,2150 h27.2
  text "12" at 1525,2418 h27.2
  text "11" at 1525,2150 h27.2
  text "10" at 1625,2418 h27.2
  text "9" at 1638,2150 h27.2
  text "8" at 1738,2418 h27.2
  text "7" at 1738,2150 h27.2
  text "6" at 1838,2418 h27.2
  text "5" at 1838,2150 h27.2
  text "2" at 1938,2418 h27.2
  text "1" at 1938,2150 h27.2
  text "144" at 2011,2418 h27.2
  text "143" at 2011,2150 h27.2
  text "142" at 2111,2418 h27.2
  text "141" at 2111,2150 h27.2
  text "140" at 2211,2418 h27.2
  text "139" at 2211,2150 h27.2
  text "138" at 2311,2418 h27.2
  text "137" at 2311,2150 h27.2
  text "GND" at 309,2418 h27.2
  text "RAW" at 309,2150 h27.2
  text "134" at 2412,2418 h27.2
  text "133" at 2412,2150 h27.2
  text "132" at 2512,2418 h27.2
  text "131" at 2512,2150 h27.2
  text "127" at 2612,2418 h27.2
  text "126" at 2612,2150 h27.2
  text "124" at 2712,2418 h27.2
  text "123" at 2712,2150 h27.2
  text "+V" at 423,50 h27.2
  text "GND" at 409,318 h27.2
  text "58" at 624,318 h27.2
  text "57" at 624,50 h27.2
  text "67" at 724,318 h27.2
  text "66" at 724,50 h27.2
  text "75" at 824,318 h27.2
  text "74" at 824,50 h27.2
  text "79" at 924,318 h27.2
  text "78" at 924,50 h27.2
  text "81" at 1024,318 h27.2
  text "80" at 1024,50 h27.2
  text "83" at 1124,318 h27.2
  text "82" at 1124,50 h27.2
  text "85" at 1224,318 h27.2
  text "84" at 1224,50 h27.2
  text "88" at 1324,318 h27.2
  text "87" at 1324,50 h27.2
  text "93" at 1424,318 h27.2
  text "92" at 1424,50 h27.2
  text "95" at 1524,318 h27.2
  text "94" at 1524,50 h27.2
  text "98" at 1624,318 h27.2
  text "97" at 1624,50 h27.2
  text "100" at 1709,318 h27.2
  text "99" at 1721,50 h27.2
  text "102" at 1809,318 h27.2
  text "101" at 1809,50 h27.2
  text "105" at 1909,318 h27.2
  text "104" at 1909,50 h27.2
  text "112" at 2009,318 h27.2
  text "111" at 2009,50 h27.2
  text "115" at 2109,318 h27.2
  text "114" at 2109,50 h27.2
  text "117" at 2209,318 h27.2
  text "116" at 2209,50 h27.2
  text "121" at 2409,318 h27.2
  text "120" at 2409,50 h27.2
  text "119" at 2309,318 h27.2
  text "118" at 2309,50 h27.2
  text "RAW" at 310,50 h27.2
  text "TMS" at 2512,318 h27.2
  text "TDO" at 2512,50 h27.2
  text "RST" at 2712,318 h27.2
  text "GND" at 2712,50 h27.2
  text "TDI" at 2612,318 h27.2
  text "TCK" at 2612,50 h27.2
  text "SUS" at 511,318 h27.2
  text "DONE" at 496,50 h27.2
  text "A0" at 322,1674 h27.2
  text "A9" at 48,1974 h27.2
  text "A1" at 48,1674 h27.2
  text "A4" at 322,1780 h27.2
  text "A5" at 48,1780 h27.2
  text "A6" at 322,1877 h27.2
  text "A7" at 48,1877 h27.2
  text "A8" at 322,1974 h27.2
  text "GND" at 322,2091 h27.2
  text "AREF" at 48,2105 h27.2
  text "GND" at 310,318 h27.2

## MOLEX-1X6-RA_LOCK [mil]
pads (6):
  rect 74x74 hole 40: 1(0,5)
  round 74 hole 40: 2(100,-5) 3(200,5) 4(300,-5) 5(400,5) 6(500,-5)
Top Overlay:
  lines w5: 0,125 500,125 ; 0,125 -50,125 -50,25 550,25 550,125 500,125 ; 0,125 0,300 500,300 500,125
Mechanical 2:
  text ">NAME" at -35,-110 h77.5
  text ">VALUE" at 315,-110 h77.5